# Altium footprint library 2020-10-29_19-10-11.PcbLib: 1 footprints
Each footprint in its own frame and in the unit in brackets; x right, y up, seen from the top. Pads: shape width x height; smd on the part's side, far side on the other; paste and mask are expansions set on the pad; w line width, h text height; cw(c..) or ccw(c..) is an arc to the next point about the centre after c.
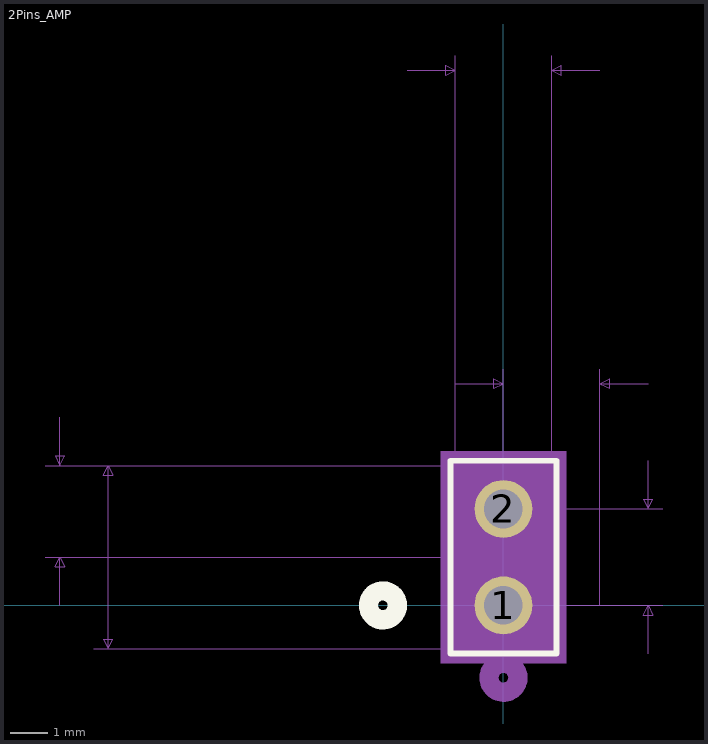
[diagram p0: the footprint, top view; thin cyan lines are the x and y axes]

## 2Pins_AMP [mil]
pads (2):
  round 60 hole 40 mask+0: 1(0,0) 2(0,100)
Top Overlay:
  circle w20: c-125,0 r15
  lines w6: -55,-50 55,-50 55,150 -55,150 -55,-50
Bottom Overlay:
  circle w20: c-125,0 r15
Mechanical 5:
  region: -65,160 65,160 65,-60 -65,-60
Mechanical 7:
  lines w1: -475,50 0,50 ; -475,145 -50,145 ; -460,0 -460,50 ; -460,195 -460,145 ; -425,-45 -50,-45 ; -425,145 -50,145 ; -100,555 -50,555 ; -50,230 0,230 ; -50,570 -50,145 ; 0,100 165,100 ; 0,245 0,0 165,0 ; 50,145 50,570 ; 100,0 100,245 ; 100,555 50,555 ; 150,-50 150,0 ; 150,150 150,100 ; 150,230 100,230 ; -460,50 -465,40 -455,40 -460,50 ; -460,145 -465,155 -455,155 -460,145 ; -410,-45 -410,145 ; -410,-45 -415,-35 -405,-35 -410,-45 ; -410,145 -415,135 -405,135 -410,145 ; -50,555 -60,560 -60,550 -50,555 ; 0,230 -10,235 -10,225 0,230 ; 50,555 60,560 60,550 50,555 ; 100,230 110,235 110,225 100,230 ; 150,0 145,-10 155,-10 150,0 ; 150,100 145,110 155,110 150,100
  text "Default Padstyle: EX60Y60D40P" at -362.5,-205 h50
  text "1st Mtg Padstyle: EX80Y80D50P" at -362.5,-280 h50
  text "2nd Mtg Padstyle: EX70Y70D70P" at -362.5,-355 h50
  text "3rd Mtg Padstyle: EX70Y70D70P" at -362.5,-430 h50
  text "Left Mtg Padstyle: EX60Y60D30P" at -375,-505 h50
  text "Right Mtg Padstyle: EX60Y60D30P" at -387.5,-580 h50
  text "Alt Padstyle 1: OX60Y90D30P" at -337.5,-655 h50
  text "Alt Padstyle 2: OX90Y60D30P" at -337.5,-730 h50
  text "0.1in/2.54mm" at -125,250 h25
  text "0.1in/2.54mm" at -75,575 h25
  text "0.1in/2.54mm" at 170,37.5 h25
  text "0.095in/2.413mm" at -667.5,85 h25
  text "0.19in/4.826mm" at -605,37.5 h25
Mechanical 13:
  circle w20: c0,-75 r15
  lines w1: -50,-45 50,-45 50,145 -50,145 -50,-45
Mechanical 15:
  region: 60,155 -60,155 -60,-55 60,-55
  lines w6: -60,-55 -60,155 60,155 60,-55 -60,-55
3D body: height 10, standoff 0, extent 0,0 10,10